# EAGLE library part TAS5182 (library Audio-Power-amlifier V.2.0)
100−W STEREO DIGITAL AMPLIFIER POWER STAGE CONTROLLER
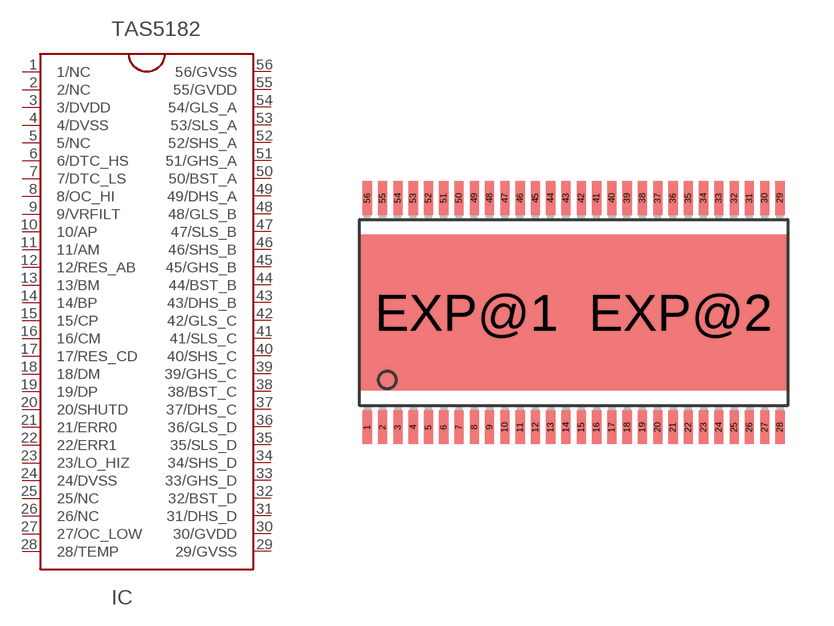
[diagram p121: symbol with the pads of HTSSOP56DCA; footprint HTSSOP56DCA]

Designator prefix IC

## TAS5182  [HTSSOP56DCA]
1  1/NC  nc
2  2/NC  nc
3  3/DVDD  pwr
4  4/DVSS  pwr
5  5/NC  nc
6  6/DTC_HS  in
7  7/DTC_LS  in
8  8/OC_HI  in
9  9/VRFILT  in
10  10/AP  in
11  11/AM  in
12  12/RES_AB  in
13  13/BM  in
14  14/BP  in
15  15/CP  in
16  16/CM  in
17  17/RES_CD  in
18  18/DM  in
19  19/DP  in
20  20/SHUTD  out
21  21/ERR0  out
22  22/ERR1  out
23  23/LO_HIZ  in
24  24/DVSS  pwr
25  25/NC  nc
26  26/NC  nc
27  27/OC_LOW  in
28  28/TEMP  in
29  29/GVSS  pwr
30  30/GVDD  pwr
31  31/DHS_D  in
32  32/BST_D  in
33  33/GHS_D  out
34  34/SHS_D  in
35  35/SLS_D  in
36  36/GLS_D  out
37  37/DHS_C  in
38  38/BST_C  in
39  39/GHS_C  out
40  40/SHS_C  in
41  41/SLS_C  in
42  42/GLS_C  out
43  43/DHS_B  in
44  44/BST_B  in
45  45/GHS_B  out
46  46/SHS_B  in
47  47/SLS_B  in
48  48/GLS_B  out
49  49/DHS_A  in
50  50/BST_A  in
51  51/GHS_A  out
52  52/SHS_A  in
53  53/SLS_A  in
54  54/GLS_A  out
55  55/GVDD  pwr
56  56/GVSS  pwr

## Footprint HTSSOP56DCA (pad centres in mm)
PowerPAD(TM) PLASTIC SMALL-OUTLINE PACKAGE DCA (R-PDSO-G**) Source: http://focus.ti.com/lit/ml/mpds044/mpds044.pdf / slma002.pdf
smd 0.3 x 1.1: 1 -6.75,-3.75; 2 -6.25,-3.75; 3 -5.75,-3.75; 4 -5.25,-3.75; 5 -4.75,-3.75; 6 -4.25,-3.75; 7 -3.75,-3.75; 8 -3.25,-3.75; 9 -2.75,-3.75; 10 -2.25,-3.75; 11 -1.75,-3.75; 12 -1.25,-3.75; 13 -0.75,-3.75; 14 -0.25,-3.75; 15 0.25,-3.75; 16 0.75,-3.75; 17 1.25,-3.75; 18 1.75,-3.75; 19 2.25,-3.75; 20 2.75,-3.75; 21 3.25,-3.75; 22 3.75,-3.75; 23 4.25,-3.75; 24 4.75,-3.75; 25 5.25,-3.75; 26 5.75,-3.75; 27 6.25,-3.75; 28 6.75,-3.75; 29 6.75,3.75; 30 6.25,3.75; 31 5.75,3.75; 32 5.25,3.75; 33 4.75,3.75; 34 4.25,3.75; 35 3.75,3.75; 36 3.25,3.75; 37 2.75,3.75; 38 2.25,3.75; 39 1.75,3.75; 40 1.25,3.75; 41 0.75,3.75; 42 0.25,3.75; 43 -0.25,3.75; 44 -0.75,3.75; 45 -1.25,3.75; 46 -1.75,3.75; 47 -2.25,3.75; 48 -2.75,3.75; 49 -3.25,3.75; 50 -3.75,3.75; 51 -4.25,3.75; 52 -4.75,3.75; 53 -5.25,3.75; 54 -5.75,3.75; 55 -6.25,3.75; 56 -6.75,3.75
smd 7 x 5.1: EXP@1 -3.5,0; EXP@2 3.5,0